# EAGLE library part PCF8523 (library NXP)
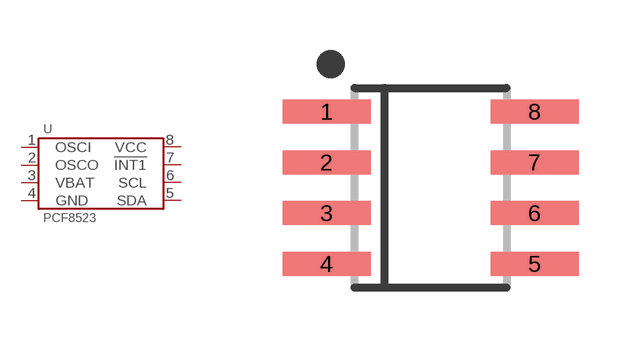
[diagram p10: symbol with the pads of SOIC-8; footprint SOIC-8]

Designator prefix U

## PCF8523T/1,118  [SOIC-8]
1  OSCI
2  OSCO
3  VBAT
4  GND
5  SDA
6  SCL
7  !INT1
8  VCC

## Footprint SOIC-8 (pad centres in mm)
smd 2.2 x 0.6: 1 -2.6,1.905; 2 -2.6,0.635; 3 -2.6,-0.635; 4 -2.6,-1.905; 5 2.6,-1.905; 6 2.6,-0.635; 7 2.6,0.635; 8 2.6,1.905